# Altium footprint library resistor.PCBLIB: 427 footprints (part 25 of 27)
Each footprint in its own frame and in the unit in brackets; x right, y up, seen from the top. Pads: shape width x height; smd on the part's side, far side on the other; paste and mask are expansions set on the pad; w line width, h text height; cw(c..) or ccw(c..) is an arc to the next point about the centre after c.
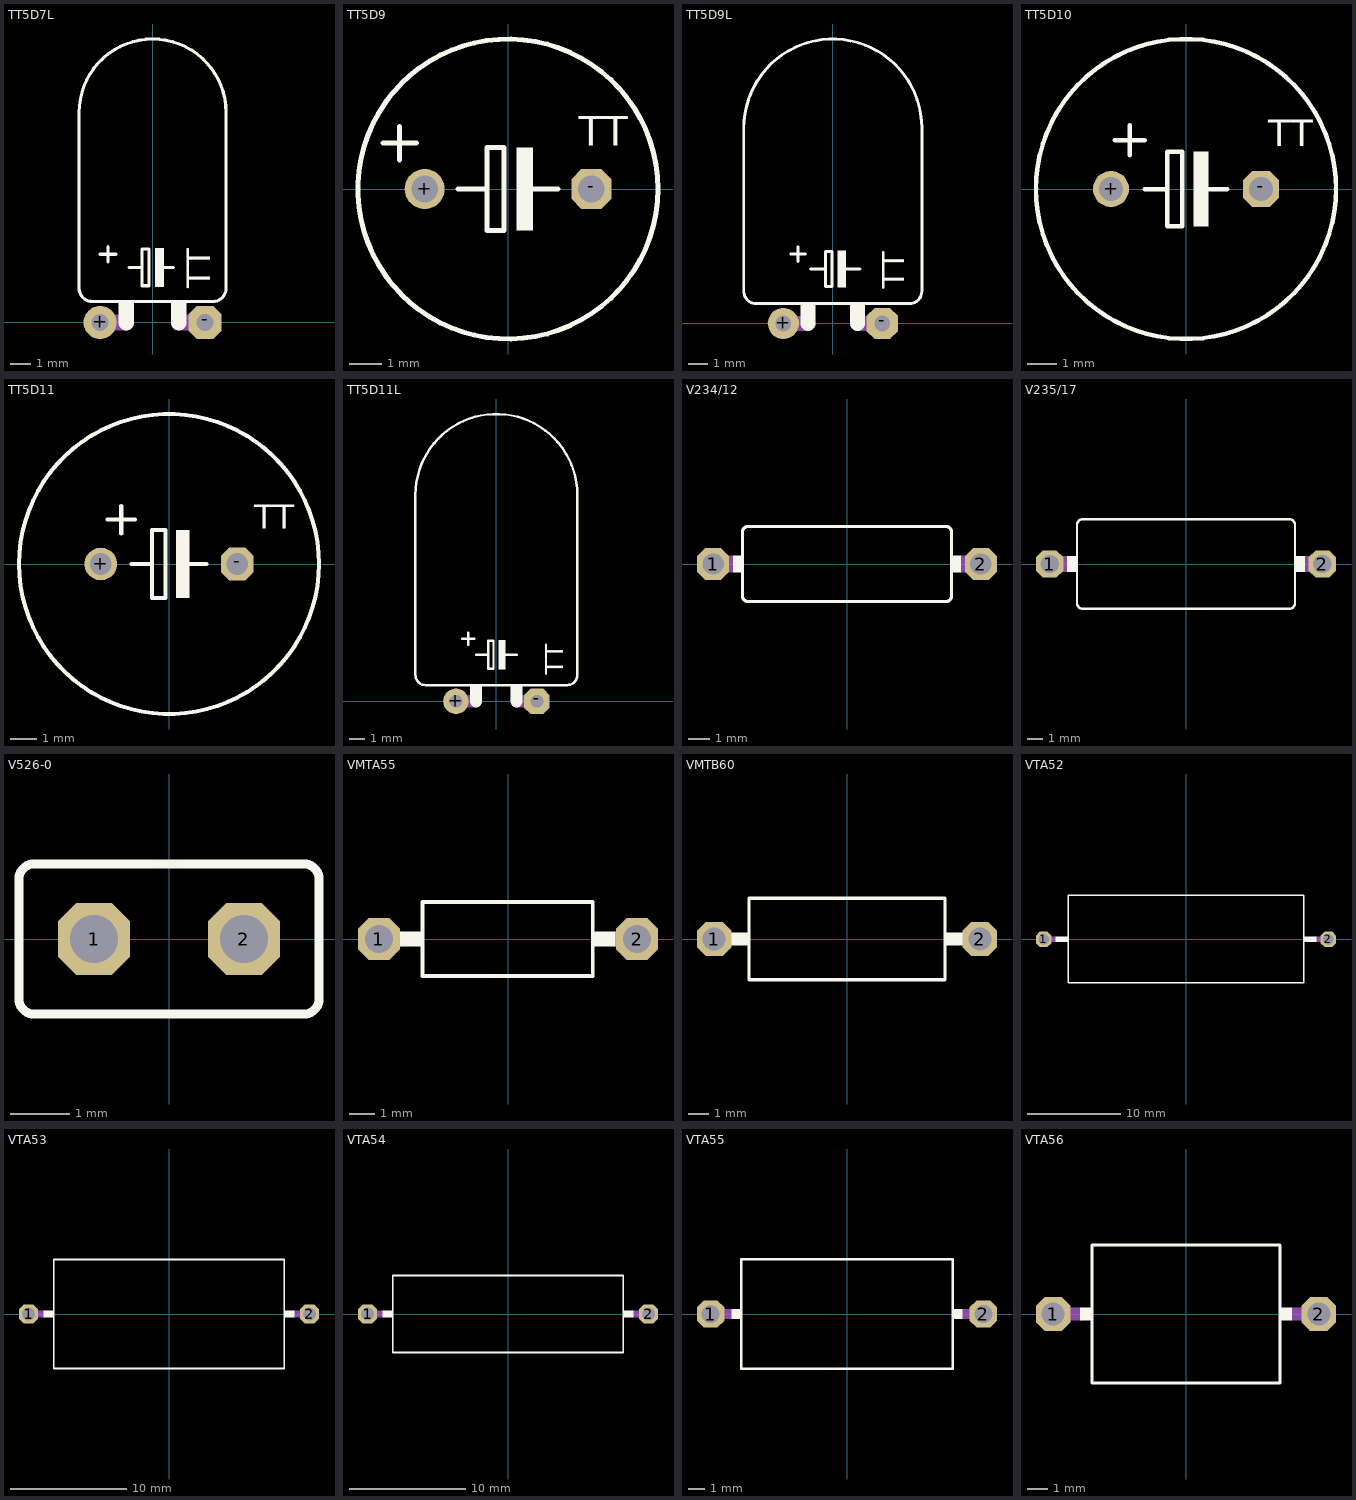
[diagram p24: the footprints below, top view; thin cyan lines are the x and y axes]

## TT5D7L [mil]
pads (2):
  round 63 hole 32: +(-100,0)
  oct 63x63 hole 32: -(100,0)
Top Overlay:
  rectangle: -65,25 -35,40
  rectangle: 35,25 65,40
  rectangle: 5,68 22,142
  lines w6: -100,130 -70,130 ; -85,115 -85,145 ; -45,105 -20,105 ; 20,105 40,105 ; -20,105 -20,70 -7,70 -7,140 -20,140 -20,105 ; -140,65 -140,400 cw(c0,400) 140,400 140,65 cw(c115,65) 115,40 -115,40 cw(c-115,65) -140,65
  lines w30: -50,0 -50,25 ; 50,0 50,25
  text "TT" at 125,65 h77.5
Mechanical 16:
  rectangle: 65,-15 100,15
  rectangle: -100,-15 -65,15
  lines w30: -60,0 -50,0 ; 50,0 60,0

## TT5D9 [mil]
pads (2):
  round 48 hole 32: +(-100,0)
  oct 48x48 hole 32: -(100,0)
Top Overlay:
  circle w6: c0,0 r180
  rectangle: 10,-50 30,50
  lines w6: -150,55 -110,55 ; -130,35 -130,75 ; -60,0 -25,0 ; 25,0 60,0 ; -25,0 -25,-50 -5,-50 -5,50 -25,50 -25,0
  text "TT" at 85,40 h60.45

## TT5D9L [mil]
pads (2):
  round 63 hole 32: +(-100,0)
  oct 63x63 hole 32: -(100,0)
Top Overlay:
  rectangle: -65,25 -35,40
  rectangle: 35,25 65,40
  rectangle: 10,73 27,147
  lines w6: -85,140 -55,140 ; -70,125 -70,155 ; -45,110 -15,110 ; 25,110 55,110 ; -15,110 -15,75 -2,75 -2,145 -15,145 -15,110 ; -180,65 -180,395 cw(c0,395) 180,395 180,65 cw(c155,65) 155,40 -155,40 cw(c-155,65) -180,65
  lines w30: -50,0 -50,25 ; 50,0 50,25
  text "TT" at 160,70 h77.5
Mechanical 16:
  rectangle: 65,-15 100,15
  rectangle: -100,-15 -65,15
  lines w30: -60,0 -50,0 ; 50,0 60,0

## TT5D10 [mil]
pads (2):
  round 48 hole 32: +(-100,0)
  oct 48x48 hole 32: -(100,0)
Top Overlay:
  circle w6: c0,0 r200
  rectangle: 10,-50 30,50
  lines w6: -95,65 -55,65 ; -75,45 -75,85 ; -55,0 -25,0 ; 25,0 55,0 ; -25,0 -25,-50 -5,-50 -5,50 -25,50 -25,0
  text "TT" at 110,45 h60.45

## TT5D11 [mil]
pads (2):
  round 48 hole 32: +(-100,0)
  oct 48x48 hole 32: -(100,0)
Top Overlay:
  circle w6: c0,0 r220
  rectangle: 10,-50 30,50
  lines w6: -90,65 -50,65 ; -70,45 -70,85 ; -55,0 -25,0 ; 25,0 55,0 ; -25,0 -25,-50 -5,-50 -5,50 -25,50 -25,0
  text "TT" at 125,40 h60.45

## TT5D11L [mil]
pads (2):
  round 63 hole 32: +(-100,0)
  oct 63x63 hole 32: -(100,0)
Top Overlay:
  rectangle: -65,25 -35,40
  rectangle: 35,25 65,40
  rectangle: 5,78 22,152
  lines w6: -85,155 -55,155 ; -70,140 -70,170 ; -50,115 -20,115 ; 20,115 50,115 ; -20,115 -20,80 -7,80 -7,150 -20,150 -20,115 ; -200,65 -200,510 cw(c0,510) 200,510 200,65 cw(c175,65) 175,40 -175,40 cw(c-175,65) -200,65
  lines w30: -50,0 -50,25 ; 50,0 50,25
  text "TT" at 180,65 h77.5
Mechanical 16:
  rectangle: 65,-15 100,15
  rectangle: -100,-15 -65,15
  lines w30: -60,0 -50,0 ; 50,0 60,0

## V234/12 [mil]
pads (2):
  oct 60x60 hole 40: 1(-250,0) 2(250,0)
Top Overlay:
  rectangle: 195,-16 213,16
  rectangle: -213,-16 -195,16
  lines w6: -195,-60 ccw(c-185,-60) -185,-70 185,-70 ccw(c185,-60) 195,-60 195,60 ccw(c185,60) 185,70 -185,70 ccw(c-185,60) -195,60 -195,-60
Mechanical 16:
  lines w32: -250,0 -215,0 ; 215,0 250,0

## V235/17 [mil]
pads (2):
  oct 70.5x70.5 hole 47: 1(-350,0) 2(350,0)
Top Overlay:
  rectangle: 280,-20 305,20
  rectangle: -305,-20 -280,20
  lines w6: -280,-100 -280,100 cw(c-265,100) -265,115 265,115 cw(c265,100) 280,100 280,-100 cw(c265,-100) 265,-115 -265,-115 cw(c-265,-100) -280,-100
Mechanical 16:
  lines w40: -350,0 -310,0 ; 310,0 350,0

## V526-0 [mil]
pads (2):
  oct 48x48 hole 32: 1(-50,0) 2(50,0)
Top Overlay:
  lines w6: -100,-40 ccw(c-90,-40) -90,-50 90,-50 ccw(c90,-40) 100,-40 100,40 ccw(c90,40) 90,50 -90,50 ccw(c-90,40) -100,40 -100,-40

## VMTA55 [mil]
pads (2):
  oct 64.97x64.97 hole 43.31: 1(-200,0) 2(200,0)
Top Overlay:
  rectangle: -167.72,-12 -130.22,12
  rectangle: 129.23,-12 166.73,12
  lines w6: -132.38,-57.09 -132.38,57.09 131.4,57.09 131.4,-57.09 -132.38,-57.09
Mechanical 16:
  lines w24: -200,0 -167.72,0 ; 166.73,0 200,0

## VMTB60 [mil]
pads (2):
  oct 64.97x64.97 hole 43.31: 1(-250,0) 2(250,0)
Top Overlay:
  rectangle: -219.88,-12 -182.38,12
  rectangle: 182.38,-12 219.88,12
  lines w6: -184.55,-76.77 -184.55,76.77 184.55,76.77 184.55,-76.77 -184.55,-76.77
Mechanical 16:
  lines w24: -250,0 -219.88,0 ; 219.88,0 250,0

## VTA52 [mil]
pads (2):
  oct 64.97x64.97 hole 43.31: 1(-600,0) 2(600,0)
Top Overlay:
  rectangle: -550,-12 -494.78,12
  rectangle: 494.78,-12 550,12
  lines w6: -496.95,-183.07 -496.95,0.98 -496.95,186.02 496.95,186.02 496.95,0.98 496.95,-183.07 -496.95,-183.07
Mechanical 16:
  lines w24: -600,0 -550,0 ; 550,0 600,0

## VTA53 [mil]
pads (2):
  oct 64.97x64.97 hole 43.31: 1(-475,0) 2(475,0)
Top Overlay:
  rectangle: -425,-12 -387.5,12
  rectangle: 387.5,-12 425,12
  lines w6: -389.67,-184.06 -389.67,0 -389.67,185.04 389.67,185.04 389.67,0 389.67,-184.06 -389.67,-184.06
Mechanical 16:
  lines w24: -475,0 -425,0 ; 425,0 475,0

## VTA54 [mil]
pads (2):
  oct 64.97x64.97 hole 43.31: 1(-475,0) 2(475,0)
Top Overlay:
  rectangle: -425,-12 -387.5,12
  rectangle: 387.5,-12 425,12
  lines w6: -389.67,-129.92 -389.67,0 -389.67,129.92 389.67,129.92 389.67,0 389.67,-129.92 -389.67,-129.92
Mechanical 16:
  lines w24: -475,0 -425,0 ; 425,0 475,0

## VTA55 [mil]
pads (2):
  oct 64.97x64.97 hole 43.31: 1(-325,0) 2(325,0)
Top Overlay:
  rectangle: -275,-12 -250,12
  rectangle: 250,-12 275,12
  lines w6: -252.17,-129.92 -252.17,0 -252.17,129.92 252.17,129.92 252.17,0 252.17,-129.92 -252.17,-129.92
Mechanical 16:
  lines w24: -325,0 -275,0 ; 275,0 325,0

## VTA56 [mil]
pads (2):
  oct 64.97x64.97 hole 43.31: 1(-250,0) 2(250,0)
Top Overlay:
  rectangle: -200,-12 -175,12
  rectangle: 175,-12 200,12
  lines w6: -177.17,-129.92 -177.17,0 -177.17,129.92 177.17,129.92 177.17,0 177.17,-129.92 -177.17,-129.92
Mechanical 16:
  lines w24: -250,0 -200,0 ; 200,0 250,0